# EAGLE library part 74HC259D (library NXP_By_element14_Batch_1)
8-bit addressable latch
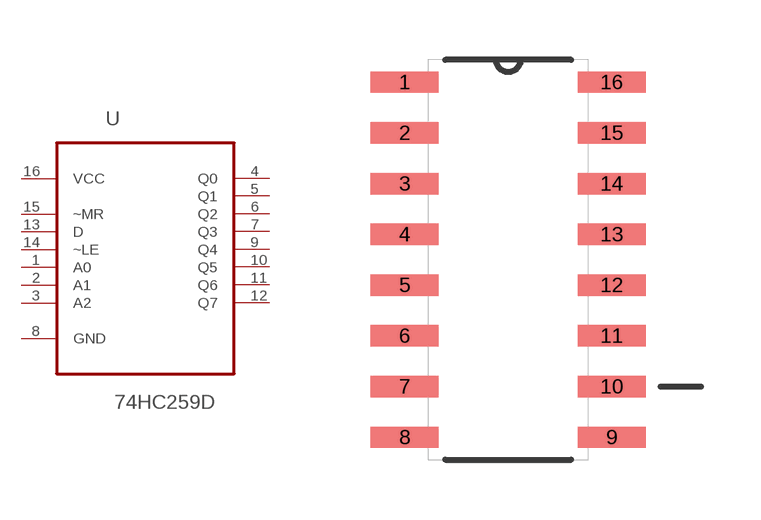
[diagram p65: symbol with the pads of SOIC127P600X175-16N; footprint SOIC127P600X175-16N]

Designator prefix U

## 74HC259D (MPN: 74HC259D; OC_FARNELL: 1085339; OC_NEWARK: 73K2210; P1I: o; PACKAGE: SOIC-16; SUPPLIER: NXP)  [SOIC127P600X175-16N]
1  A0  in
2  A1  in
3  A2  in
4  Q0  out
5  Q1  out
6  Q2  out
7  Q3  out
8  GND  pas
9  Q4  out
10  Q5  out
11  Q6  out
12  Q7  out
13  D  in
14  ~LE  in
15  ~MR  in
16  VCC  pwr

## Footprint SOIC127P600X175-16N (pad centres in mm)
smd 1.702 x 0.533: 1 -2.591,4.445; 2 -2.591,3.175; 3 -2.591,1.905; 4 -2.591,0.635; 5 -2.591,-0.635; 6 -2.591,-1.905; 7 -2.591,-3.175; 8 -2.591,-4.445; 9 2.591,-4.445; 10 2.591,-3.175; 11 2.591,-1.905; 12 2.591,-0.635; 13 2.591,0.635; 14 2.591,1.905; 15 2.591,3.175; 16 2.591,4.445